# EAGLE library part 10103594-0001LF (library 10103594-0001LF)
USB - micro B USB 2.0 Receptacle Connector 5 Position Surface Mount, Right Angle; Through Hole Check availability <https://pricing.snapeda.com/parts/10103594-0001LF/Amphenol%20ICC/view-part?ref=eda>
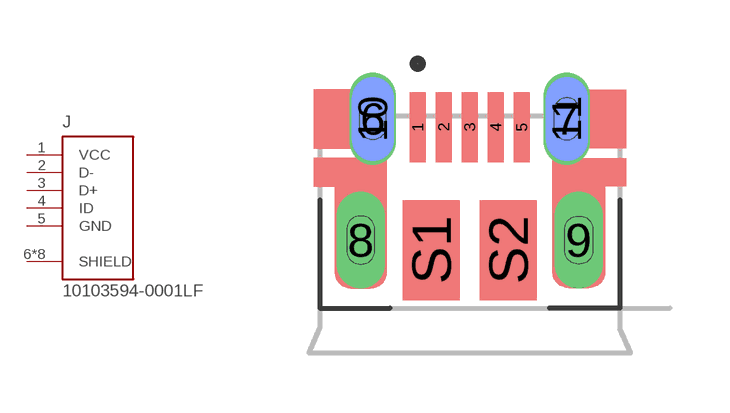
[diagram p0: symbol with the pads of AMPHENOL_10103594-0001LF; footprint AMPHENOL_10103594-0001LF]

Designator prefix J

## 10103594-0001LF (Availability: In Stock; Description: Micro USB 2.0, Input Output Connectors, B TYPE RECEPTACLE; MF: Amphenol ICC; MP: 10103594-0001LF; Package: None; Price: None; Purchase-URL: https://pricing.snapeda.com/search/part/10103594-0001LF/?ref=eda)  [AMPHENOL_10103594-0001LF]
1  VCC  pwr
2  D-
3  D+
4  ID
5  GND  pwr
6  SHIELD  pas
7  SHIELD  pas
8  SHIELD  pas
9  SHIELD  pas
10  SHIELD  pas
11  SHIELD  pas
S1  SHIELD  pas
S2  SHIELD  pas

## Footprint AMPHENOL_10103594-0001LF (pad centres in mm)
smd 0.4 x 1.75: 1 -1.3,2.825; 2 -0.65,2.825; 3 0,2.825; 4 0.65,2.825; 5 1.3,2.825
drill 0.65 pad 0.73 long: 6 -2.425,3.03; 7 2.425,3.03
drill 0.7 pad 1.2 long: 8 -2.725,0; 9 2.725,0
smd 1.05 x 2.1 bottom: 10 -2.425,3.03; 11 2.425,3.03
smd 1.425 x 2.5: S1 -0.963,-0.25; S2 0.963,-0.25